# EAGLE library part HEADER_36X3 (library Prototyping)
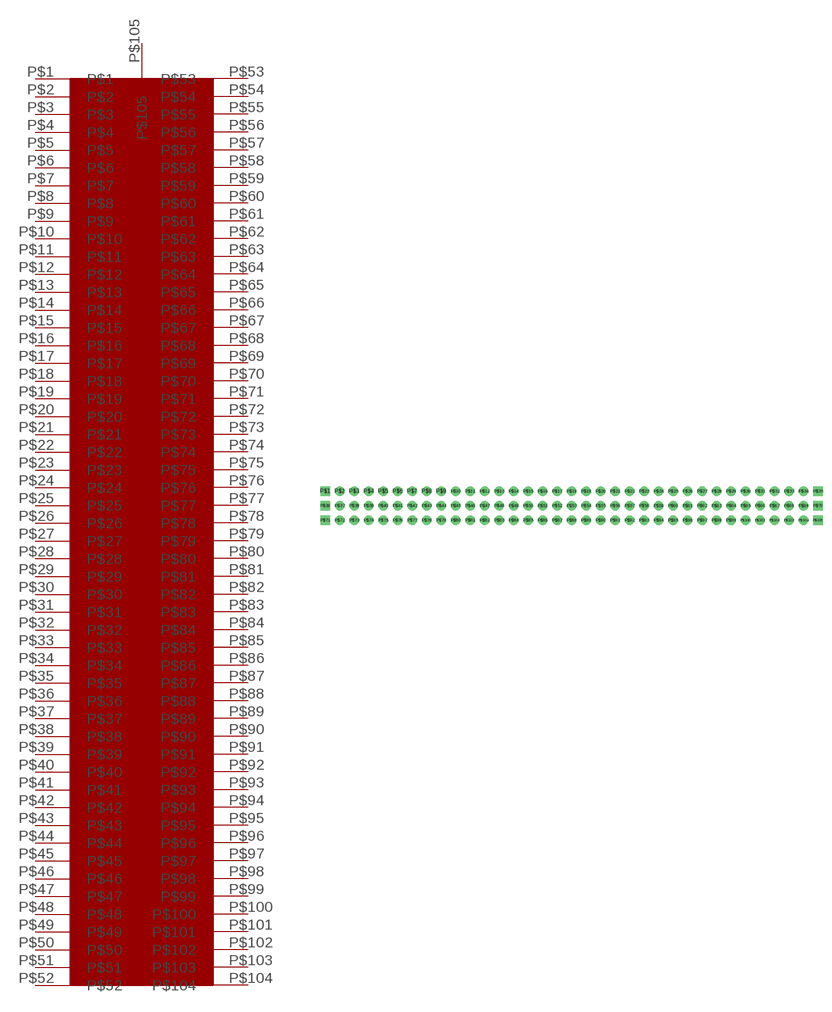
[diagram p0: symbol with the pads of HEADER_36X3; footprint HEADER_36X3]

Designator prefix -

## HEADER_36X3  [HEADER_36X3]
P$1  P$1
P$2  P$2
P$3  P$3
P$4  P$4
P$5  P$5
P$6  P$6
P$7  P$7
P$8  P$8
P$9  P$9
P$10  P$10
P$11  P$11
P$12  P$12
P$13  P$13
P$14  P$14
P$15  P$15
P$16  P$16
P$17  P$17
P$18  P$18
P$19  P$19
P$20  P$20
P$21  P$21
P$22  P$22
P$23  P$23
P$24  P$24
P$25  P$25
P$26  P$26
P$27  P$27
P$28  P$28
P$29  P$29
P$30  P$30
P$31  P$31
P$32  P$32
P$33  P$33
P$34  P$34
P$35  P$35
P$36  P$36
P$37  P$37
P$38  P$38
P$39  P$39
P$40  P$40
P$41  P$41
P$42  P$42
P$43  P$43
P$44  P$44
P$45  P$45
P$46  P$46
P$47  P$47
P$48  P$48
P$49  P$49
P$50  P$50
P$51  P$51
P$52  P$52
P$53  P$53
P$54  P$54
P$55  P$55
P$56  P$56
P$57  P$57
P$58  P$58
P$59  P$59
P$60  P$60
P$61  P$61
P$62  P$62
P$63  P$63
P$64  P$64
P$65  P$65
P$66  P$66
P$67  P$67
P$68  P$68
P$69  P$69
P$70  P$70
P$71  P$71
P$72  P$72
P$73  P$73
P$74  P$74
P$75  P$75
P$76  P$76
P$77  P$77
P$78  P$78
P$79  P$79
P$80  P$80
P$81  P$81
P$82  P$82
P$83  P$83
P$84  P$84
P$85  P$85
P$86  P$86
P$87  P$87
P$88  P$88
P$89  P$89
P$90  P$90
P$91  P$91
P$92  P$92
P$93  P$93
P$94  P$94
P$95  P$95
P$96  P$96
P$97  P$97
P$98  P$98
P$99  P$99
P$100  P$100
P$101  P$101
P$102  P$102
P$103  P$103
P$104  P$104
P$105  P$105

## Footprint HEADER_36X3 (pad centres in mm)
drill 0.8 pad 1.7 square: P$1 -45.72,2.54; P$35 40.64,2.54; P$36 -45.72,0; P$70 40.64,0; P$71 -45.72,-2.54; P$105 40.64,-2.54
drill 0.8 pad 1.7: P$2 -43.18,2.54; P$3 -40.64,2.54; P$4 -38.1,2.54; P$5 -35.56,2.54; P$6 -33.02,2.54; P$7 -30.48,2.54; P$8 -27.94,2.54; P$9 -25.4,2.54; P$10 -22.86,2.54; P$11 -20.32,2.54; P$12 -17.78,2.54; P$13 -15.24,2.54; P$14 -12.7,2.54; P$15 -10.16,2.54; P$16 -7.62,2.54; P$17 -5.08,2.54; P$18 -2.54,2.54; P$19 0,2.54; P$20 2.54,2.54; P$21 5.08,2.54; P$22 7.62,2.54; P$23 10.16,2.54; P$24 12.7,2.54; P$25 15.24,2.54; P$26 17.78,2.54; P$27 20.32,2.54; P$28 22.86,2.54; P$29 25.4,2.54; P$30 27.94,2.54; P$31 30.48,2.54; P$32 33.02,2.54; P$33 35.56,2.54; P$34 38.1,2.54; P$37 -43.18,0; P$38 -40.64,0; P$39 -38.1,0; P$40 -35.56,0; P$41 -33.02,0; P$42 -30.48,0; P$43 -27.94,0; P$44 -25.4,0; P$45 -22.86,0; P$46 -20.32,0; P$47 -17.78,0; P$48 -15.24,0; P$49 -12.7,0; P$50 -10.16,0; P$51 -7.62,0; P$52 -5.08,0; P$53 -2.54,0; P$54 0,0; P$55 2.54,0; P$56 5.08,0; P$57 7.62,0; P$58 10.16,0; P$59 12.7,0; P$60 15.24,0; P$61 17.78,0; P$62 20.32,0; P$63 22.86,0; P$64 25.4,0; P$65 27.94,0; P$66 30.48,0; P$67 33.02,0; P$68 35.56,0; P$69 38.1,0; P$72 -43.18,-2.54; P$73 -40.64,-2.54; P$74 -38.1,-2.54; P$75 -35.56,-2.54; P$76 -33.02,-2.54; P$77 -30.48,-2.54; P$78 -27.94,-2.54; P$79 -25.4,-2.54; P$80 -22.86,-2.54; P$81 -20.32,-2.54; P$82 -17.78,-2.54; P$83 -15.24,-2.54; P$84 -12.7,-2.54; P$85 -10.16,-2.54; P$86 -7.62,-2.54; P$87 -5.08,-2.54; P$88 -2.54,-2.54; P$89 0,-2.54; P$90 2.54,-2.54; P$91 5.08,-2.54; P$92 7.62,-2.54; P$93 10.16,-2.54; P$94 12.7,-2.54; P$95 15.24,-2.54; P$96 17.78,-2.54; P$97 20.32,-2.54; P$98 22.86,-2.54; P$99 25.4,-2.54; P$100 27.94,-2.54; P$101 30.48,-2.54; P$102 33.02,-2.54; P$103 35.56,-2.54; P$104 38.1,-2.54